# Altium schematic symbol library ATP48.SchLib: 1 symbol
Pins are listed as number, name and electrical type; pins without a type are passive.

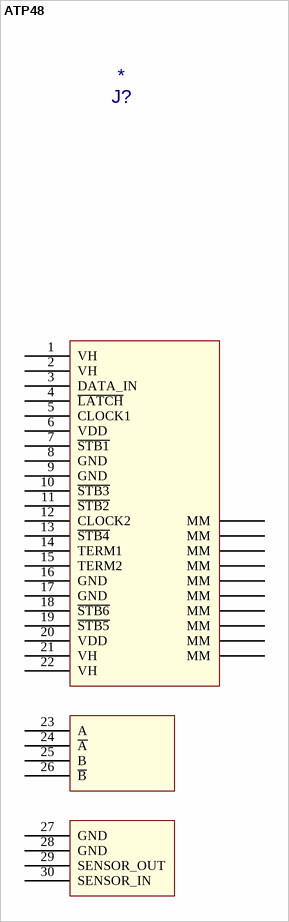
[diagram p0: symbol ATP48]

## ATP48
designator J?
Value: *
footprint ATP48
pins: 1 VH, 2 VH, 3 DATA_IN, 4 ~{LATCH}, 5 CLOCK1, 6 VDD, 7 ~{STB1}, 8 GND, 9 GND, 10 ~{STB3}, 11 ~{STB2}, 12 CLOCK2, 13 ~{STB4}, 14 TERM1, 15 TERM2, 16 GND, 17 GND, 18 ~{STB6}, 19 ~{STB5}, 20 VDD, 21 VH, 22 VH, 23 A, 24 ~{A}, 25 B, 26 ~{B}, 27 GND, 28 GND, 29 SENSOR_OUT, 30 SENSOR_IN, 31 MM, 32 MM, 33 MM, 34 MM, 35 MM, 36 MM, 37 MM, 38 MM, 39 MM, 40 MM